# Altium footprint library PCB - SWITCH - C&K PTS645.PcbLib: 1 footprints
Each footprint in its own frame and in the unit in brackets; x right, y up, seen from the top. Pads: shape width x height; smd on the part's side, far side on the other; paste and mask are expansions set on the pad; w line width, h text height; cw(c..) or ccw(c..) is an arc to the next point about the centre after c.
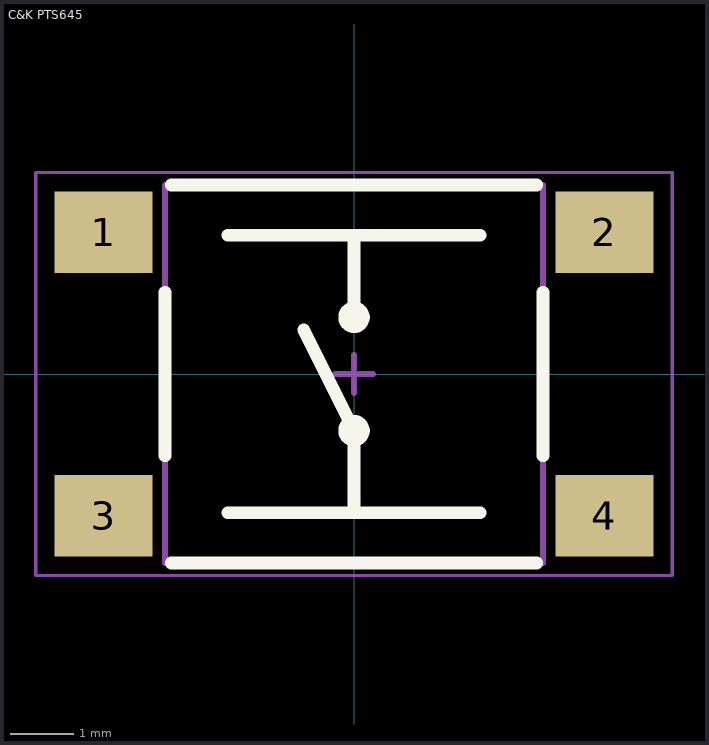
[diagram p0: the footprint, top view; thin cyan lines are the x and y axes]

## C&K PTS645 [mm] "T-Switch, 4-leads, body 6x6mm, C&K PTS645SM43SMTR92 LFS"
height 4.4
pads (4):
  rect 1.55x1.3 smd mask+0.1: 1(-3.975,2.25) 2(3.975,2.25) 3(-3.975,-2.25) 4(3.975,-2.25)
Top Overlay:
  circle w0.2: c0,-0.9 r0.15
  circle w0.2: c0,0.9 r0.15
  lines w0.2: -3,-1.3 -3,1.3 ; -2.9,-3 2.9,-3 ; -2.9,3 2.9,3 ; -2,-2.2 2,-2.2 ; -2,2.2 2,2.2 ; -0.8,0.7 0,-0.9 0,-2.2 ; 0,0.9 0,2.2 ; 3,-1.3 3,1.3
Mechanical 13:
  lines w0.1: -3,-3 -3,3 3,3 3,-3 -3,-3
Mechanical 15 (Mech15):
  lines w0.05: -5.05,-3.2 -5.05,3.2 5.05,3.2 5.05,-3.2 -5.05,-3.2
  lines w0.1: -0.3,0 0.3,0 ; 0,-0.3 0,0.3
3D body "C&K - PTS645 SMT.step": height 4.4, standoff 0, extent -4.5,-3 4.5,3